# Altium schematic symbol library RUH30J51M1_RUH30J51M.schdoc.SCHLIB: 1 symbol
Pins are listed as number, name and electrical type; pins without a type are passive.

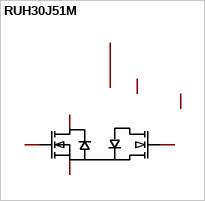
[diagram p0: symbol RUH30J51M]

## RUH30J51M
designator U??  (value not drawn)
Add into BOM: yes; Symbol: RUH30J51M; Device: RUH30J51M; LCSC Part Name: RUH30J51M; Supplier Part: C3019595; Manufacturer Part: RUH30J51M; Supplier Footprint: DFN-8(5x6); JLCPCB Part Class: Extended Part; Datasheet: https://atta.szlcsc.com/upload/public/pdf/source/20220614/0174D7ED654B176846E53ECDED748663.pdf; Supplier: LCSC; Convert to PCB: yes
footprint DFN-8_L6.0-W5.0-P1.27_AON6938
pins: 1 G1, 2 D1, 3 S2, 4 S2, 5 S2, 6 G2, 7 S1/D2